# EAGLE library part CS5368 (library cirrus)
8-Channel A/D Converter 114 dB, 192 kHz
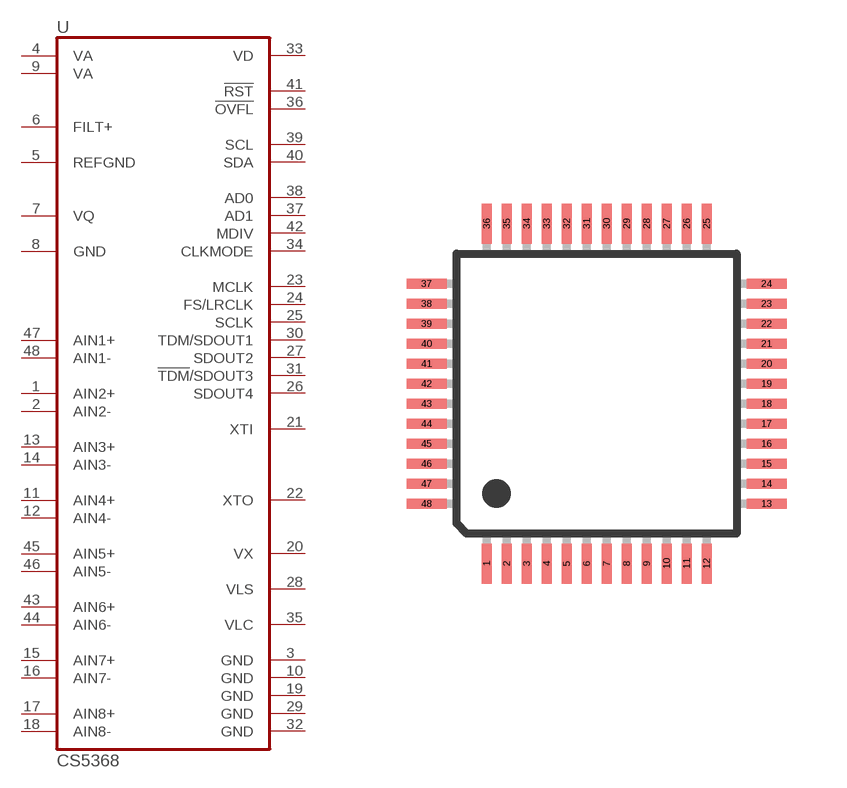
[diagram p21: symbol with the pads of LQFP48L; footprint LQFP48L]

Designator prefix U

## CS5368  [LQFP48L]
1  AIN2+  in
2  AIN2-  in
3  GND  pwr
4  VA  pwr
5  REFGND  pwr
6  FILT+  in
7  VQ  pwr
8  GND  pwr
9  VA  pwr
10  GND  pwr
11  AIN4+  in
12  AIN4-  in
13  AIN3+  in
14  AIN3-  in
15  AIN7+  in
16  AIN7-  in
17  AIN8+  in
18  AIN8-  in
19  GND  pwr
20  VX  pwr
21  XTI  in
22  XTO
23  MCLK  in
24  FS/LRCLK  in
25  SCLK  in
26  SDOUT4  in
27  SDOUT2  in
28  VLS  pwr
29  GND  pwr
30  TDM/SDOUT1  in
31  !TDM!/SDOUT3  in
32  GND  pwr
33  VD  pwr
34  CLKMODE  in
35  VLC  pwr
36  !OVFL!  out
37  AD1  in
38  AD0  in
39  SCL  in
40  SDA  in
41  !RST!  in
42  MDIV  in
43  AIN6+  in
44  AIN6-  in
45  AIN5+  in
46  AIN5-  in
47  AIN1+  in
48  AIN1-  in

## Footprint LQFP48L (pad centres in mm)
LQFP-48L body 7 x 7 mm
smd 0.25 x 1: 1 -2.75,-4.25; 2 -2.25,-4.25; 3 -1.75,-4.25; 4 -1.25,-4.25; 5 -0.75,-4.25; 6 -0.25,-4.25; 7 0.25,-4.25; 8 0.75,-4.25; 9 1.25,-4.25; 10 1.75,-4.25; 11 2.25,-4.25; 12 2.75,-4.25; 25 2.75,4.25; 26 2.25,4.25; 27 1.75,4.25; 28 1.25,4.25; 29 0.75,4.25; 30 0.25,4.25; 31 -0.25,4.25; 32 -0.75,4.25; 33 -1.25,4.25; 34 -1.75,4.25; 35 -2.25,4.25; 36 -2.75,4.25
smd 1 x 0.25: 13 4.25,-2.75; 14 4.25,-2.25; 15 4.25,-1.75; 16 4.25,-1.25; 17 4.25,-0.75; 18 4.25,-0.25; 19 4.25,0.25; 20 4.25,0.75; 21 4.25,1.25; 22 4.25,1.75; 23 4.25,2.25; 24 4.25,2.75; 37 -4.25,2.75; 38 -4.25,2.25; 39 -4.25,1.75; 40 -4.25,1.25; 41 -4.25,0.75; 42 -4.25,0.25; 43 -4.25,-0.25; 44 -4.25,-0.75; 45 -4.25,-1.25; 46 -4.25,-1.75; 47 -4.25,-2.25; 48 -4.25,-2.75